# Altium integrated library Libreria-LEDs.IntLib: 30 symbols
Pins are listed as number, name and electrical type; pins without a type are passive.

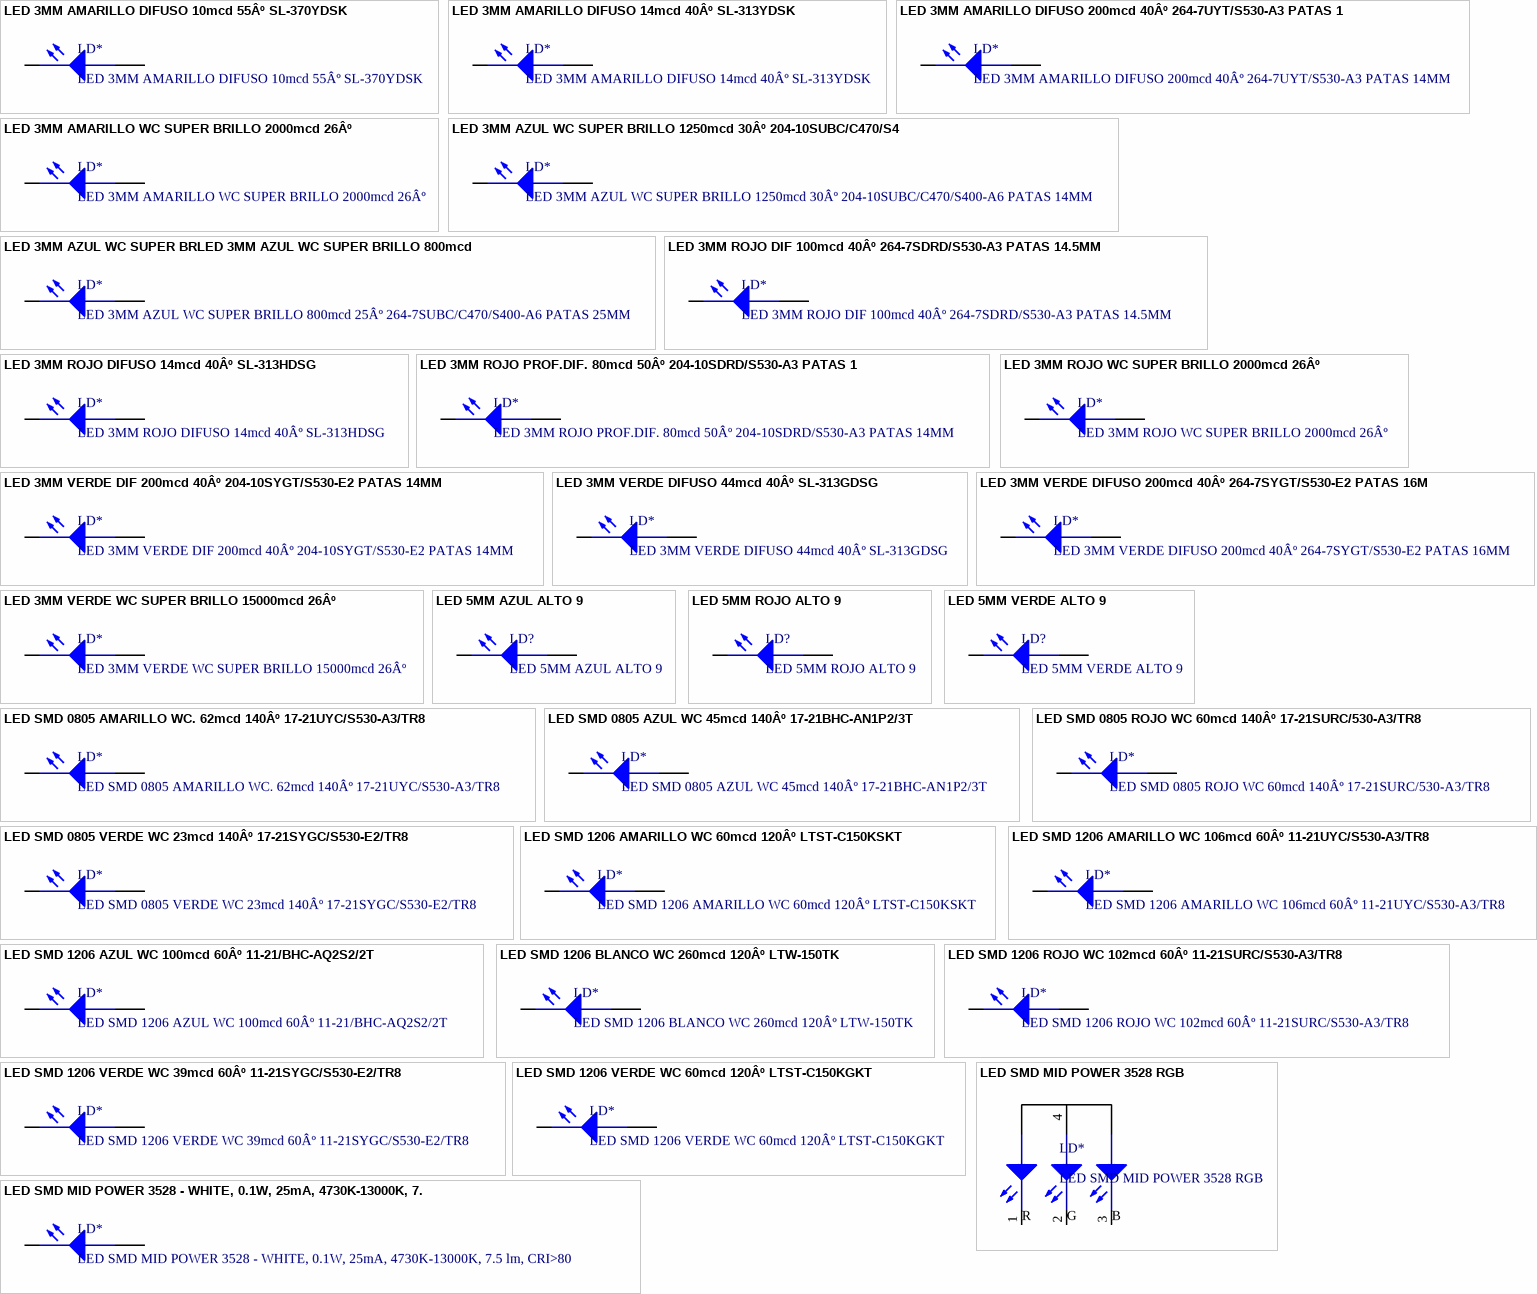
[diagram p0: symbols LED 3MM AMARILLO DIFUSO 10mcd 55Âº SL-370YDSK to LED SMD MID POWER 3528 RGB]

## LED 3MM AMARILLO DIFUSO 10mcd 55Âº SL-370YDSK
designator LD*
COD. ELEMON: OP1442140
footprint LED 3MM Amarillo (LED 3MM)
pins: A AB, K KB

## LED 3MM AMARILLO DIFUSO 14mcd 40Âº SL-313YDSK
designator LD*
COD. ELEMON: OP1442120
footprint LED 3MM Amarillo (LED 3MM)
pins: A AB, K KB

## LED 3MM AMARILLO DIFUSO 200mcd 40Âº 264-7UYT/S530-A3 PATAS 14MM
designator LD*
COD. ELEMON: OP1442160
footprint LED 3MM Amarillo (LED 3MM)
pins: A AB, K KB

## LED 3MM AMARILLO WC SUPER BRILLO 2000mcd 26Âº
designator LD*
COD. ELEMON: OP1452515
footprint LED 3MM Amarillo (LED 3MM)
pins: A AB, K KB

## LED 3MM AZUL WC SUPER BRILLO 1250mcd 30Âº 204-10SUBC/C470/S400-A6 PATAS 14MM
designator LD*
COD. ELEMON: OP1452620
footprint LED 3MM AZUL (LED 3MM)
pins: A AB, K KB

## LED 3MM AZUL WC SUPER BRLED 3MM AZUL WC SUPER BRILLO 800mcd 25Âº 264-7SUBC/C470/S400-A6 PATAS 25MM
designator LD*, comment LED 3MM AZUL WC SUPER BRILLO 800mcd 25Âº 264-7SUBC/C470/S400-A6 PATAS 25MM
LED 3MM AZUL WC SUPLED 3MM AZUL WC SUPER BRILLO 800mcd 25Âº 264-7SUBC/C470/S400-A6 PATAS 25MM; COD. ELEMON: OP1452610
footprint LED 3MM AZUL (LED 3MM)
pins: A AB, K KB

## LED 3MM ROJO DIF 100mcd 40Âº 264-7SDRD/S530-A3 PATAS 14.5MM
designator LD*
COD. ELEMON: OP1442000
footprint LED 3MM ROJO (LED 3MM)
pins: A AB, K KB

## LED 3MM ROJO DIFUSO 14mcd 40Âº SL-313HDSG
designator LD*
COD. ELEMON: OP1442040
footprint LED 3MM ROJO (LED 3MM)
pins: A AB, K KB

## LED 3MM ROJO PROF.DIF. 80mcd 50Âº 204-10SDRD/S530-A3 PATAS 14MM
designator LD*
COD. ELEMON: OP1442020
footprint LED 3MM ROJO (LED 3MM)
pins: A AB, K KB

## LED 3MM ROJO WC SUPER BRILLO 2000mcd 26Âº
designator LD*
COD. ELEMON: OP1452500
footprint LED 3MM ROJO (LED 3MM)
pins: A AB, K KB

## LED 3MM VERDE DIF 200mcd 40Âº 204-10SYGT/S530-E2 PATAS 14MM
designator LD*
COD. ELEMON: OP1442080
footprint LED 3MM VERDE (LED 3MM)
pins: A AB, K KB

## LED 3MM VERDE DIFUSO 44mcd 40Âº SL-313GDSG
designator LD*
COD. ELEMON: OP1442100
footprint LED 3MM VERDE (LED 3MM)
pins: A AB, K KB

## LED 3MM VERDE DIFUSO 200mcd 40Âº 264-7SYGT/S530-E2 PATAS 16MM
designator LD*
COD. ELEMON: OP1442060
footprint LED 3MM VERDE (LED 3MM)
pins: A AB, K KB

## LED 3MM VERDE WC SUPER BRILLO 15000mcd 26Âº
designator LD*
COD. ELEMON: OP1452540
footprint LED 3MM VERDE (LED 3MM)
pins: A AB, K KB

## LED 5MM AZUL ALTO 9
designator LD?
footprint LED-5MM-ALTO-9-AZUL
pins: A AB, K KB

## LED 5MM ROJO ALTO 9
designator LD?
footprint LED-5MM-ALTO-9-ROJO
pins: A AB, K KB

## LED 5MM VERDE ALTO 9
designator LD?
footprint LED-5MM-ALTO-9-VERDE
pins: A AB, K KB

## LED SMD 0805 AMARILLO WC. 62mcd 140Âº 17-21UYC/S530-A3/TR8
designator LD*
COD. ELEMON: OP1574140
footprint LED SMD 0805
pins: A AB, K KB

## LED SMD 0805 AZUL WC 45mcd 140Âº 17-21BHC-AN1P2/3T
designator LD*
COD. ELEMON: OP1574200
footprint LED SMD 0805
pins: A AB, K KB

## LED SMD 0805 ROJO WC 60mcd 140Âº 17-21SURC/530-A3/TR8
designator LD*
COD. ELEMON: OP1574100
footprint LED SMD 0805
pins: A AB, K KB

## LED SMD 0805 VERDE WC 23mcd 140Âº 17-21SYGC/S530-E2/TR8
designator LD*
COD. ELEMON: OP1574180
footprint LED SMD 0805
pins: A AB, K KB

## LED SMD 1206 AMARILLO WC 60mcd 120Âº LTST-C150KSKT
designator LD*
COD. ELEMON: OP1574080
footprint LED SMD 1206
pins: A AB, K KB

## LED SMD 1206 AMARILLO WC 106mcd 60Âº 11-21UYC/S530-A3/TR8
designator LD*
COD. ELEMON: OP1574073
footprint LED SMD 1206
pins: A AB, K KB

## LED SMD 1206 AZUL WC 100mcd 60Âº 11-21/BHC-AQ2S2/2T
designator LD*
COD. ELEMON: OP1574077
footprint LED SMD 1206
pins: A AB, K KB

## LED SMD 1206 BLANCO WC 260mcd 120Âº LTW-150TK
designator LD*
COD. ELEMON: OP1574095
footprint LED SMD 1206
pins: A AB, K KB

## LED SMD 1206 ROJO WC 102mcd 60Âº 11-21SURC/S530-A3/TR8
designator LD*
COD. ELEMON: OP1574070
footprint LED SMD 1206
pins: A AB, K KB

## LED SMD 1206 VERDE WC 39mcd 60Âº 11-21SYGC/S530-E2/TR8
designator LD*
COD. ELEMON: OP1574075
footprint LED SMD 1206
pins: A AB, K KB

## LED SMD 1206 VERDE WC 60mcd 120Âº LTST-C150KGKT
designator LD*
COD. ELEMON: OP1574081
footprint LED SMD 1206
pins: A AB, K KB

## LED SMD MID POWER 3528 - WHITE, 0.1W, 25mA, 4730K-13000K, 7.5 lm, CRI>80
designator LD*
COD. ELEMON: OP1654340; COD. FV: CE.LED.0002
footprint LED SMD 3528
pins: A AB, K KB

## LED SMD MID POWER 3528 RGB
designator LD*
footprint LED SMD 3528 RGB
pins: 1 R, 2 G, 3 B, 4, 4, 4